# Altium footprint library SMD Transistors.PcbLib: 18 footprints (part 1 of 2)
Each footprint in its own frame and in the unit in brackets; x right, y up, seen from the top. Pads: shape width x height; smd on the part's side, far side on the other; paste and mask are expansions set on the pad; w line width, h text height; cw(c..) or ccw(c..) is an arc to the next point about the centre after c.
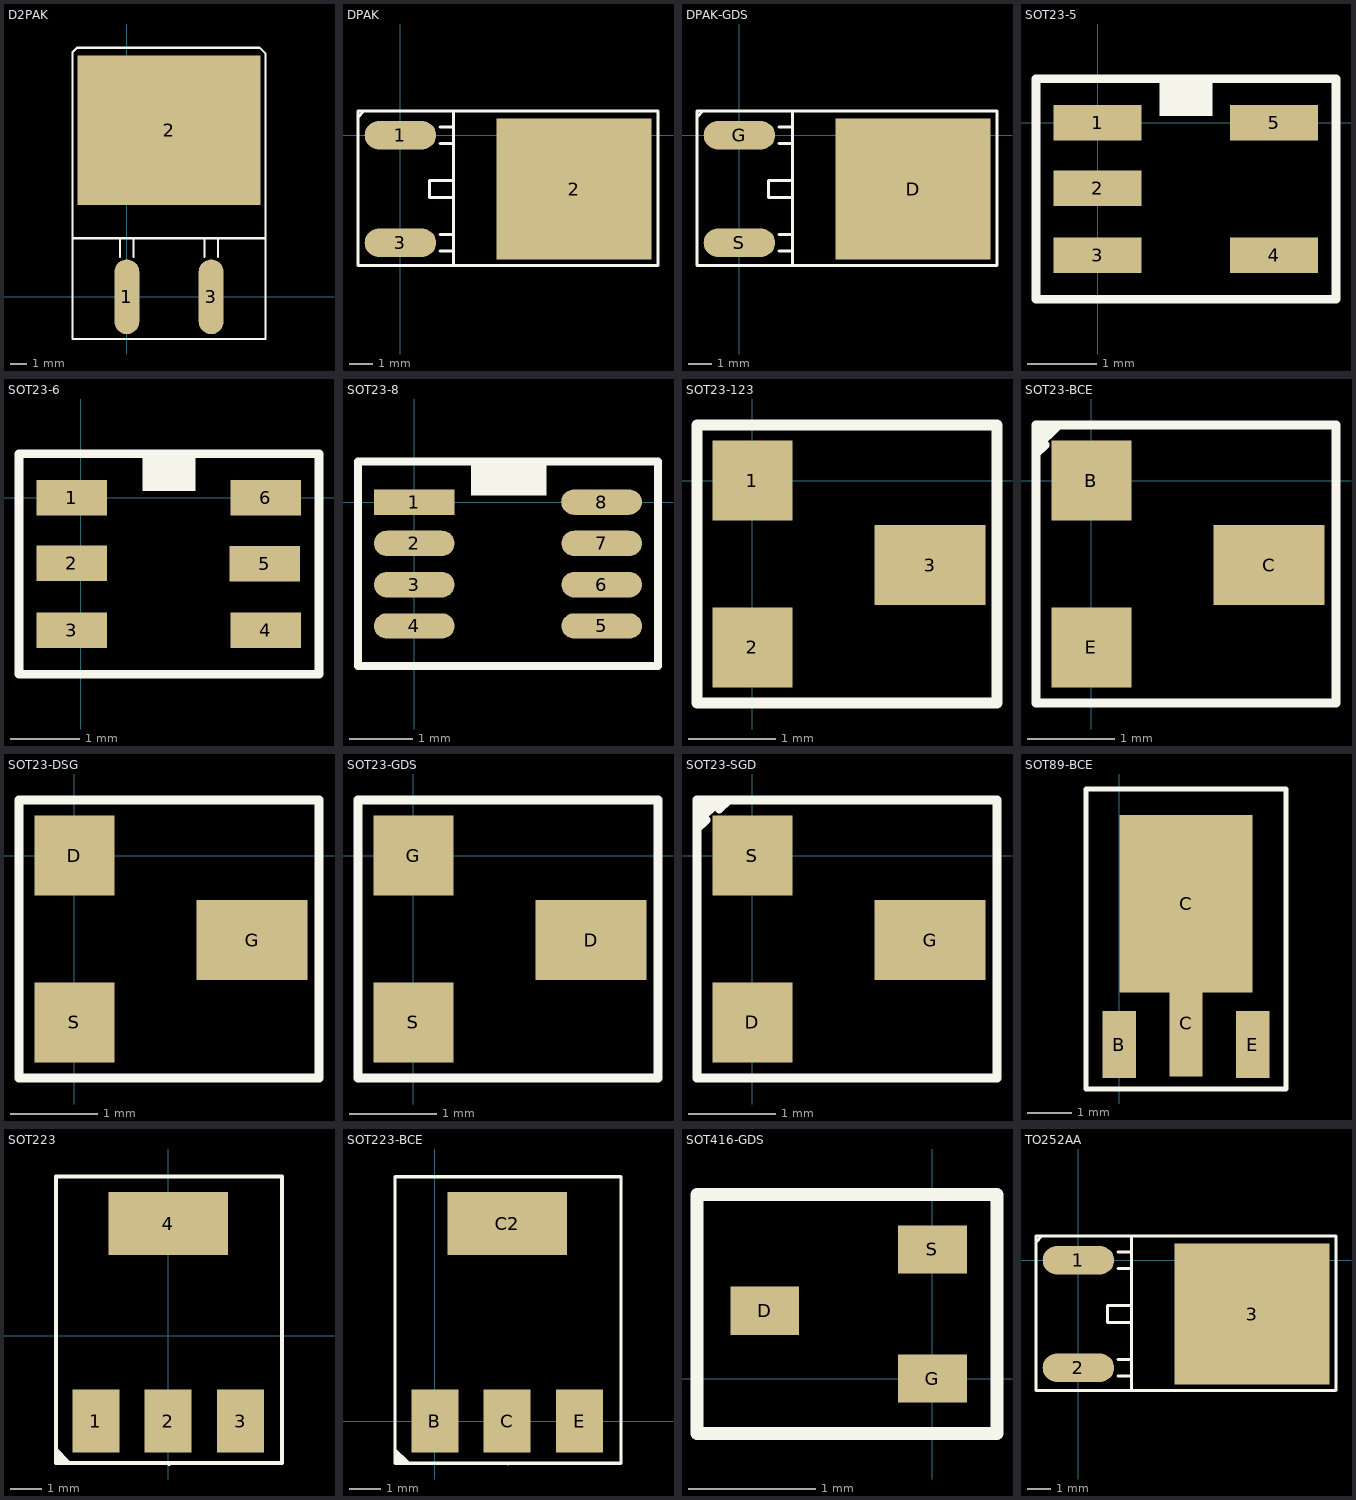
[diagram p0: the footprints below, top view; thin cyan lines are the x and y axes]

## D2PAK [mm]
pads (3):
  oval 1.5x4.5 smd: 1(0,0) 3(5.08,0)
  rect 11x9 smd: 2(2.54,10.025)
Top Overlay:
  lines w0.127: -0.407,2.4 -0.407,3.525 ; 0.407,2.4 0.407,3.525 ; 4.673,2.4 4.673,3.525 ; 5.487,2.4 5.487,3.525 ; -3.26,3.525 8.34,3.525 ; -3.26,3.525 -3.26,14.325 -3.26,14.74 -3,15 8,15 8.34,14.66 8.34,14.325 8.34,3.525 ; -3.26,3.525 -3.26,-2.523 -3.277,-2.54 8.357,-2.54 8.357,3.508 8.34,3.525
3D body: height 3.81, standoff 1.27, extent -2.565,3.632 7.595,11.532
3D body: height 2.57, standoff 0, extent -2.565,6.629 -1.727,8.839
3D body: height 2.54, standoff 0, extent -2.565,3.632 7.595,11.532
3D body: height 0.51, standoff 0, extent 4.318,0.051 5.842,1.753
3D body: height 1.27, standoff 0, extent -2.616,11.532 7.595,13.538

## DPAK [mm]
pads (3):
  oval 3x1.2 smd: 1(0,0) 3(0,-4.5)
  rect 6.5x5.9 smd: 2(7.275,-2.25)
Top Overlay:
  lines w0.127: -1.778,0.762 -1.524,1.016 ; 1.65,-4.85 2.225,-4.85 ; 1.65,-4.15 2.225,-4.15 ; 2.225,-5.45 2.225,0.95 ; 2.225,-2.6 1.225,-2.6 1.225,-1.9 2.225,-1.9 ; -1.778,-5.461 -1.778,1.016 10.795,1.016 10.795,-5.461 -1.778,-5.461 ; 1.65,-0.35 2.225,-0.35 1.65,-0.35 ; 1.65,0.35 2.225,0.35 1.65,0.35
3D body: height 2.41, standoff 0, extent -0.502,-5.48 9.436,1.06

## DPAK-GDS [mm]
pads (3):
  rect 6.5x5.9 smd: D(7.275,-2.25)
  oval 3x1.2 smd: G(0,0) S(0,-4.5)
Top Overlay:
  lines w0.127: -1.778,0.762 -1.524,1.016 ; 1.65,-4.85 2.225,-4.85 ; 1.65,-4.15 2.225,-4.15 ; 2.225,-5.45 2.225,0.95 ; 2.225,-2.6 1.225,-2.6 1.225,-1.9 2.225,-1.9 ; -1.778,-5.461 10.795,-5.461 10.795,1.016 -1.778,1.016 -1.778,-5.461 ; 1.65,-0.35 2.225,-0.35 1.65,-0.35 ; 1.65,0.35 2.225,0.35 1.65,0.35
3D body: height 2.41, standoff 0, extent -0.502,-5.48 9.436,1.06

## SOT23-5 [mil]
pads (5):
  rect 50x20 smd: 1(0,0) 2(0,-37) 3(0,-75) 4(100,-75) 5(100,0)
Top Overlay:
  rectangle: 35,3.94 65,23.62
  lines w5: -34.88,11.02 -34.88,12.02 ; -34.88,15.02 -34.88,25.02 ; -20.88,25.02 -18.88,25.02 ; -19.88,25.02 -34.88,25.02 ; -34.88,25.02 135.12,25.02 135.12,-99.98 -34.88,-99.98 -34.88,25.02
3D body: height 52.18, standoff 51.18, extent 31.02,3.02 40.98,13
3D body: height 8.66, standoff 0, extent 89,-8 98,8
3D body: height 24.41, standoff 0, extent 82.5,-8 91.5,8
3D body: height 24.41, standoff 15.75, extent 76,-8 83,8
3D body: height 8.66, standoff 0, extent 89,-83 98,-67
3D body: height 24.41, standoff 0, extent 82.5,-83 91.5,-67
3D body: height 24.41, standoff 15.75, extent 76,-83 83,-67
3D body: height 8.66, standoff 0, extent 2,-83 11,-67
3D body: height 24.41, standoff 0, extent 8.5,-83 17.5,-67
3D body: height 24.41, standoff 15.75, extent 17,-83 24,-67
3D body: height 8.66, standoff 0, extent 2,-45 11,-29
3D body: height 24.41, standoff 0, extent 8.5,-45 17.5,-29
3D body: height 24.41, standoff 15.75, extent 17,-45 24,-29
3D body: height 24.41, standoff 15.75, extent 17,-8 24,8
3D body: height 24.41, standoff 0, extent 8.5,-8 17.5,8
3D body: height 8.66, standoff 0, extent 2,-8 11,8
3D body: height 51.18, standoff 3.94, extent 24,-95 76,20

## SOT23-6 [mil]
pads (6):
  rect 40x20 smd: 1(-5,0) 2(-5,-37) 3(-5,-75) 4(105,-75) 5(104.41,-37.4) 6(105,0)
Top Overlay:
  rectangle: 35,3.94 65,23.62
  lines w5: -34.88,11.02 -34.88,12.02 ; -34.88,15.02 -34.88,25.02 ; -20.88,25.02 -18.88,25.02 ; -19.88,25.02 -34.88,25.02 ; -34.88,25.02 -34.88,-99.98 135.12,-99.98 135.12,25.02 -34.88,25.02
3D body: height 8.66, standoff 0, extent 89,-45 98,-29
3D body: height 24.41, standoff 0, extent 82.5,-45 91.5,-29
3D body: height 24.41, standoff 15.75, extent 76,-45 83,-29
3D body: height 51.18, standoff 3.94, extent 24,-95 76,20
3D body: height 8.66, standoff 0, extent 2,-8 11,8
3D body: height 24.41, standoff 0, extent 8.5,-8 17.5,8
3D body: height 24.41, standoff 15.75, extent 17,-8 24,8
3D body: height 24.41, standoff 15.75, extent 17,-45 24,-29
3D body: height 24.41, standoff 0, extent 8.5,-45 17.5,-29
3D body: height 8.66, standoff 0, extent 2,-45 11,-29
3D body: height 24.41, standoff 15.75, extent 17,-83 24,-67
3D body: height 24.41, standoff 0, extent 8.5,-83 17.5,-67
3D body: height 8.66, standoff 0, extent 2,-83 11,-67
3D body: height 24.41, standoff 15.75, extent 76,-83 83,-67
3D body: height 24.41, standoff 0, extent 82.5,-83 91.5,-67
3D body: height 8.66, standoff 0, extent 89,-83 98,-67
3D body: height 24.41, standoff 15.75, extent 76,-8 83,8
3D body: height 24.41, standoff 0, extent 82.5,-8 91.5,8
3D body: height 8.66, standoff 0, extent 89,-8 98,8
3D body: height 52.18, standoff 51.18, extent 31.02,3.02 40.98,13

## SOT23-8 [mm]
pads (8):
  rect 1.27x0.4 smd: 1(0,0)
  oval 1.27x0.4 smd: 2(0,-0.65) 3(0,-1.3) 4(0,-1.95) 5(2.95,-1.95) 6(2.95,-1.3) 7(2.95,-0.65) 8(2.946,0)
Top Overlay:
  rectangle: 0.889,0.1 2.083,0.6
  lines w0.127: -0.886,0.28 -0.886,0.305 ; -0.886,0.381 -0.886,0.635 ; -0.53,0.635 -0.48,0.635 ; -0.505,0.635 -0.886,0.635 ; -0.886,0.635 3.835,0.635 3.835,-2.58 -0.886,-2.58 -0.886,0.635
3D body: height 1.33, standoff 1.3, extent 0.991,0.051 1.244,0.305
3D body: height 0.22, standoff 0, extent 0.254,-2.108 0.483,-1.778
3D body: height 0.62, standoff 0, extent 0.419,-2.108 0.648,-1.778
3D body: height 0.62, standoff 0.4, extent 0.635,-2.108 0.813,-1.778
3D body: height 1.3, standoff 0.1, extent 0.813,-2.438 2.134,0.483
3D body: height 0.62, standoff 0.4, extent 0.635,-1.473 0.813,-1.143
3D body: height 0.62, standoff 0, extent 0.419,-1.473 0.648,-1.143
3D body: height 0.22, standoff 0, extent 0.254,-1.473 0.483,-1.143
3D body: height 0.62, standoff 0.4, extent 0.635,-0.813 0.813,-0.483
3D body: height 0.62, standoff 0, extent 0.419,-0.813 0.648,-0.483
3D body: height 0.22, standoff 0, extent 0.254,-0.813 0.483,-0.483
3D body: height 0.62, standoff 0.4, extent 0.635,-0.152 0.813,0.178
3D body: height 0.62, standoff 0, extent 0.419,-0.152 0.648,0.178
3D body: height 0.22, standoff 0, extent 0.254,-0.152 0.483,0.178
3D body: height 0.22, standoff 0, extent 2.464,-0.14 2.692,0.191
3D body: height 0.62, standoff 0, extent 2.299,-0.14 2.527,0.191
3D body: height 0.62, standoff 0.4, extent 2.134,-0.14 2.311,0.191
3D body: height 0.22, standoff 0, extent 2.464,-0.8 2.692,-0.47
3D body: height 0.62, standoff 0, extent 2.299,-0.8 2.527,-0.47
3D body: height 0.62, standoff 0.4, extent 2.134,-0.8 2.311,-0.47
3D body: height 0.22, standoff 0, extent 2.464,-1.46 2.692,-1.13
3D body: height 0.62, standoff 0, extent 2.299,-1.46 2.527,-1.13
3D body: height 0.62, standoff 0.4, extent 2.134,-1.46 2.311,-1.13
3D body: height 0.62, standoff 0.4, extent 2.134,-2.095 2.311,-1.765
3D body: height 0.62, standoff 0, extent 2.299,-2.095 2.527,-1.765
3D body: height 0.22, standoff 0, extent 2.464,-2.095 2.692,-1.765

## SOT23-123 [mil]
pads (3):
  rect 36x36 smd: 1(0,0) 2(0,-75)
  rect 50x36 smd: 3(80,-38)
Top Overlay:
  lines w5: -24.88,11.02 -24.88,12.02 ; -24.88,15.02 -24.88,25.02 ; -10.88,25.02 -8.88,25.02 ; -9.88,25.02 -24.88,25.02 ; -24.88,25.02 -24.88,-99.98 110.12,-99.98 110.12,25.02 -24.88,25.02
3D body: height 40.59, standoff 0.43, extent -3.48,-95 94,19.96

## SOT23-BCE [mil]
pads (3):
  rect 36x36 smd: B(0,0) E(0,-75)
  rect 50x36 smd: C(80,-38)
Top Overlay:
  lines w4: -24.88,11.02 -24.88,12.02 -20.88,16.02 ; -24.88,19.02 -18.88,25.02 ; -14.88,25.02 -24.88,15.02 -24.88,25.02 ; -9.88,25.02 -24.88,25.02 ; -24.88,25.02 -24.88,-99.98 110.12,-99.98 110.12,25.02 -24.88,25.02
3D body: height 40.59, standoff 0.43, extent -3.48,-95 94,19.96

## SOT23-DSG [mil] "SOT23 DRAING SOURCE GATE ORDER"
height 47.24
pads (3):
  rect 36x36 smd: D(0,0) S(0,-75)
  rect 50x36 smd: G(80,-38)
Top Overlay:
  lines w4: -24.88,11.02 -24.88,12.02 ; -24.88,15.02 -24.88,25.02 ; -10.88,25.02 -8.88,25.02 ; -9.88,25.02 -24.88,25.02 ; -24.88,25.02 -24.88,-99.98 110.12,-99.98 110.12,25.02 -24.88,25.02
3D body: height 40.59, standoff 0.43, extent -3.48,-95 94,19.96

## SOT23-GDS [mil]
pads (3):
  rect 50x36 smd: D(80,-38)
  rect 36x36 smd: G(0,0) S(0,-75)
Top Overlay:
  lines w4: -24.88,11.02 -24.88,12.02 ; -24.88,15.02 -24.88,25.02 ; -10.88,25.02 -8.88,25.02 ; -9.88,25.02 -24.88,25.02 ; -24.88,25.02 -24.88,-99.98 110.12,-99.98 110.12,25.02 -24.88,25.02
3D body: height 40.59, standoff 0.43, extent -3.48,-95 94,19.96

## SOT23-SGD [mil]
pads (3):
  rect 36x36 smd: D(0,-75) S(0,0)
  rect 50x36 smd: G(80,-38)
Top Overlay:
  lines w4: -24.88,11.02 -24.88,12.02 -20.88,16.02 ; -24.88,19.02 -18.88,25.02 ; -14.88,21.02 -10.88,25.02 -8.88,25.02 ; -14.88,25.02 -24.88,15.02 -24.88,25.02 ; -9.88,25.02 -24.88,25.02 ; -24.88,25.02 -24.88,-99.98 110.12,-99.98 110.12,25.02 -24.88,25.02
3D body: height 40.59, standoff 0.43, extent -3.48,-95 94,19.96

## SOT89-BCE [mm]
pads (4):
  rect 0.75x1.5 smd: B(0,1.5) E(3,1.5)
  rect 0.75x2.4 smd: C(1.5,1.983)
  rect 3x4 smd: C(1.5,4.67)
Top Overlay:
  lines w0.102: -0.75,0.5 -0.75,7.25 3.75,7.25 3.75,0.5 -0.75,0.5
3D body: height 0.51, standoff 0, extent 0.33,5.207 2.692,6.325
3D body: height 1.3, standoff 1.27, extent -0.254,2.896 0.252,3.403
3D body: height 0.64, standoff 0, extent 2.743,1.524 3.251,2.667
3D body: height 0.64, standoff 0, extent 1.245,1.524 1.753,2.667
3D body: height 1.27, standoff 0, extent -0.508,2.667 3.556,5.207
3D body: height 0.64, standoff 0, extent -0.254,1.524 0.254,2.667

## SOT223 [mil]
pads (4):
  rect 59x79 smd: 1(-91,-107) 2(0,-107) 3(91,-107)
  rect 150x79 smd: 4(0,141)
Top Overlay:
  lines w5: -141,-143 -125,-159 -129,-159 -130,-159 -141,-148 -141,-153 -135,-159 -134,-159 ; 0,200 143,200 143,-160 1,-160 ; 2,200 -141,200 -141,-160 1,-160 ; 1,-160 1,-161 1,-160
3D body: height 8.66, standoff 0, extent 71,-105 111,-81
3D body: height 24.41, standoff 0, extent 71,-81 111,-72
3D body: height 24.41, standoff 15.75, extent 71,-72 111,-55
3D body: height 8.66, standoff 0, extent -20,-105 20,-81
3D body: height 24.41, standoff 0, extent -20,-81 20,-72
3D body: height 24.41, standoff 15.75, extent -20,-72 20,-55
3D body: height 24.41, standoff 15.75, extent -110,-72 -70,-55
3D body: height 24.41, standoff 0, extent -110,-81 -70,-72
3D body: height 8.66, standoff 0, extent -110,-105 -70,-81
3D body: height 20, standoff 0, extent -70,114 70,162
3D body: height 51, standoff 50, extent -124,-47.98 -104.08,-28.02
3D body: height 50, standoff 0, extent -131,-55 135,114

## SOT223-BCE [mil]
pads (4):
  rect 59x79 smd: B(0,0) C(91,0) E(182,0)
  rect 150x79 smd: C2(91,248)
Top Overlay:
  lines w4: -50,-36 -34,-52 -38,-52 -39,-52 -50,-41 -50,-46 -44,-52 -43,-52 ; 91,307 234,307 234,-53 92,-53 ; 93,307 -50,307 -50,-53 92,-53 ; 92,-53 92,-54 92,-53
3D body: height 8.66, standoff 0, extent 162,2 202,26
3D body: height 24.41, standoff 0, extent 162,26 202,35
3D body: height 24.41, standoff 15.75, extent 162,35 202,52
3D body: height 8.66, standoff 0, extent 71,2 111,26
3D body: height 24.41, standoff 0, extent 71,26 111,35
3D body: height 24.41, standoff 15.75, extent 71,35 111,52
3D body: height 24.41, standoff 15.75, extent -19,35 21,52
3D body: height 24.41, standoff 0, extent -19,26 21,35
3D body: height 8.66, standoff 0, extent -19,2 21,26
3D body: height 20, standoff 0, extent 21,221 161,269
3D body: height 51, standoff 50, extent -33,59.02 -13.08,78.98
3D body: height 50, standoff 0, extent -40,52 226,221

## SOT416-GDS [mm] "SOT416 GDS"
pads (3):
  rect 0.54x0.38 smd: D(-1.321,0.533) G(0,0) S(0,1.016)
Top Overlay:
  lines w0.102: -1.854,-0.432 -1.854,1.448 0.508,1.448 0.508,-0.432 -1.854,-0.432
3D body: height 0.94, standoff 0.91, extent -0.584,-0.279 -0.331,-0.026
3D body: height 0.51, standoff 0.3, extent -1.219,0.432 -1.041,0.635
3D body: height 0.51, standoff 0, extent -1.372,0.432 -1.206,0.635
3D body: height 0.2, standoff 0, extent -1.473,0.432 -1.219,0.635
3D body: height 0.89, standoff 0.1, extent -1.118,-0.432 -0.203,1.448
3D body: height 0.2, standoff 0, extent -0.102,-0.102 0.152,0.102
3D body: height 0.51, standoff 0, extent -0.114,-0.102 0.051,0.102
3D body: height 0.51, standoff 0.3, extent -0.279,-0.102 -0.102,0.102
3D body: height 0.2, standoff 0, extent -0.102,0.914 0.152,1.118
3D body: height 0.51, standoff 0, extent -0.114,0.914 0.051,1.118
3D body: height 0.51, standoff 0.3, extent -0.279,0.914 -0.102,1.118

## TO252AA [mm]
pads (3):
  oval 3x1.2 smd: 1(0,0) 2(0,-4.5)
  rect 6.5x5.9 smd: 3(7.275,-2.25)
Top Overlay:
  lines w0.127: -1.778,0.762 -1.524,1.016 ; 1.65,-4.85 2.225,-4.85 ; 1.65,-4.15 2.225,-4.15 ; 2.225,-5.45 2.225,0.95 ; 2.225,-2.6 1.225,-2.6 1.225,-1.9 2.225,-1.9 ; -1.778,-5.461 -1.778,1.016 10.795,1.016 10.795,-5.461 -1.778,-5.461 ; 1.65,-0.35 2.225,-0.35 1.65,-0.35 ; 1.65,0.35 2.225,0.35 1.65,0.35
3D body: height 2.41, standoff 0, extent -0.35,-5.48 9.589,1.06